# EAGLE library part 74LVCH1T45 (library firefly)
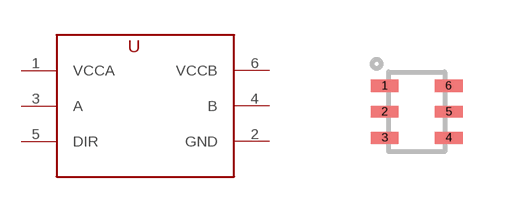
[diagram p24: symbol with the pads of SOT363; footprint SOT363]

Designator prefix -

## 74LVCH1T45  [SOT363]
1  VCCA
2  GND
3  A
4  B
5  DIR
6  VCCB

## Footprint SOT363 (pad centres in mm)
smd 0.7 x 0.3: 1 -0.8,0.65; 2 -0.8,0; 3 -0.8,-0.65; 4 0.8,-0.65; 5 0.8,0; 6 0.8,0.65